# Altium footprint library PCB - LEADED - SOP - TOSHIBA SOP Advance 2-5Q1S.PcbLib: 1 footprints
Each footprint in its own frame and in the unit in brackets; x right, y up, seen from the top. Pads: shape width x height; smd on the part's side, far side on the other; paste and mask are expansions set on the pad; w line width, h text height; cw(c..) or ccw(c..) is an arc to the next point about the centre after c.
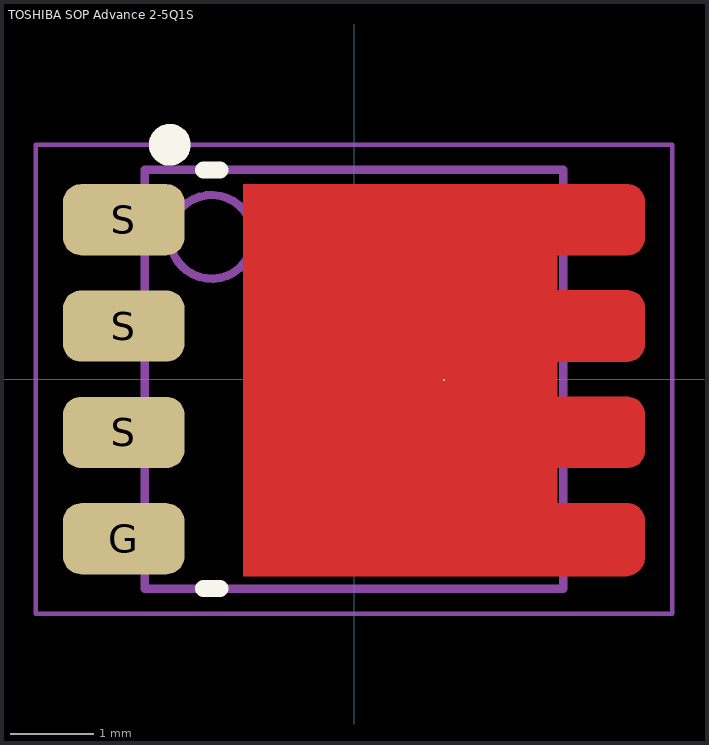
[diagram p0: the footprint, top view; thin cyan lines are the x and y axes]

## TOSHIBA SOP Advance 2-5Q1S [mm] "SOP, 8-Leads, Body 5.00x5.00mm, Pitch 1.27mm"
height 1
pads (5):
  round 0.025 smd: D(1.075,-0.01)
  rrect50% 1.45x0.85 smd: G(-2.75,-1.905) S(-2.75,-0.635) S(-2.75,0.635) S(-2.75,1.905)
Top Layer:
  region: 2.425,-1.475 2.425,-1.06 3.262,-1.06 3.283,-1.06 3.324,-1.052 3.363,-1.036 3.398,-1.013 3.428,-0.983 3.451,-0.948 3.467,-0.909 3.475,-0.868 3.475,-0.847 3.475,-0.423 3.475,-0.402 3.467,-0.361 3.451,-0.322 3.428,-0.287 3.398,-0.257 3.363,-0.234 3.324,-0.218 3.283,-0.21 3.262,-0.21 2.425,-0.21 2.425,0.21 3.262,0.21 3.283,0.21 3.324,0.218 3.363,0.234 3.398,0.257 3.428,0.287 3.451,0.322 3.467,0.361 3.475,0.402 3.475,0.422 3.475,0.423 3.475,0.847 3.475,0.868 3.467,0.909 3.451,0.948 3.428,0.983 3.398,1.013 3.363,1.036 3.324,1.052 3.283,1.06 3.262,1.06 2.425,1.06 2.425,1.48 3.262,1.48 3.283,1.48 3.324,1.488 3.363,1.504 3.398,1.527 3.428,1.557 3.451,1.592 3.467,1.631 3.475,1.672 3.475,1.693 3.475,2.117 3.475,2.138 3.467,2.179 3.451,2.218 3.428,2.253 3.398,2.283 3.363,2.306 3.324,2.322 3.283,2.33 3.262,2.33 -1.325,2.33 -1.325,-2.35 3.242,-2.35 3.265,-2.35 3.31,-2.341 3.353,-2.324 3.391,-2.298 3.423,-2.266 3.449,-2.228 3.466,-2.185 3.475,-2.14 3.475,-2.117 3.475,-1.693 3.475,-1.672 3.467,-1.631 3.451,-1.592 3.428,-1.557 3.398,-1.527 3.363,-1.504 3.324,-1.488 3.283,-1.48 3.262,-1.48 2.43,-1.48 2.429,-1.48 2.427,-1.479 2.426,-1.478 2.425,-1.476
Top Overlay:
  circle w0.25: c-2.2,2.8 r0.125
  lines w0.2: -1.8,-2.5 -1.6,-2.5 ; -1.8,2.5 -1.6,2.5
Mechanical 13:
  circle w0.1: c-1.7,1.7 r0.5
  lines w0.1: -2.5,-2.5 2.5,-2.5 2.5,2.5 -2.5,2.5 -2.5,-2.5
Mechanical 15:
  lines w0.05: -3.8,-2.8 3.8,-2.8 3.8,2.8 -3.8,2.8 -3.8,-2.8
  lines w0.1: -0.5,0 0.5,0 ; 0,-0.5 0,0.5
3D body "Toshiba SOP Advance 2-5Q1S.step": height 0.96, standoff 0, extent -3,-2.65 3,2.65